# Altium schematic symbol library Schlib1.SchLib: 2 symbols
Pins are listed as number, name and electrical type; pins without a type are passive.

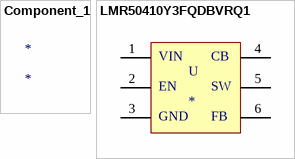
[diagram p0: symbols Component_1 to LMR50410Y3FQDBVRQ1]

## Component_1
designator *

## LMR50410Y3FQDBVRQ1
designator U
Fixed Output: 3.3V, 4-36V input, 1A output; Manufacturer: Texas Instruments; Manufacturer Part Number: LMR50410Y3FQDBVRQ1; Description: Switching Regulator, Current-mode, 1A, 2100kHz Switching Freq-Max, PDSO6; Supplier: Digikey; Supplier Part Number: 296-LMR50410Y3FQDBVRQ1CT-ND; RoHS: Yes; Category: Voltage Regulators - Switching; Stock: 8688; Pricing: 1=1.6, 10=1.126, 25=1.008, 100=0.8782, 250=0.81632, 500=0.77898, 1000=0.74825 (USD)
pins: 1 VIN, 2 EN, 3 GND, 4 CB, 5 SW, 6 FB